# Altium schematic symbol library LTC4417IGN.Schlib: 1 symbol
Pins are listed as number, name and electrical type; pins without a type are passive.

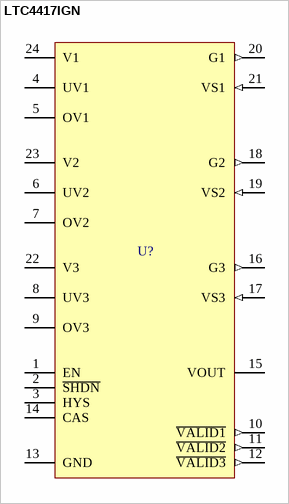
[diagram p0: symbol LTC4417IGN]

## LTC4417IGN
designator U?
36V Prioritized PowerPath Controller
pins: 1 EN, 2 ~{SHDN}, 3 HYS, 4 UV1, 5 OV1, 6 UV2, 7 OV2, 8 UV3, 9 OV3, 10 ~{VALID1} (out), 11 ~{VALID2} (out), 12 ~{VALID3} (out), 13 GND (power), 14 CAS, 15 VOUT (power), 16 G3 (out), 17 VS3 (in), 18 G2 (out), 19 VS2 (in), 20 G1 (out), 21 VS1 (in), 22 V3 (power), 23 V2 (power), 24 V1 (power)